# EAGLE library part MAX-M8* (library U-Blox)
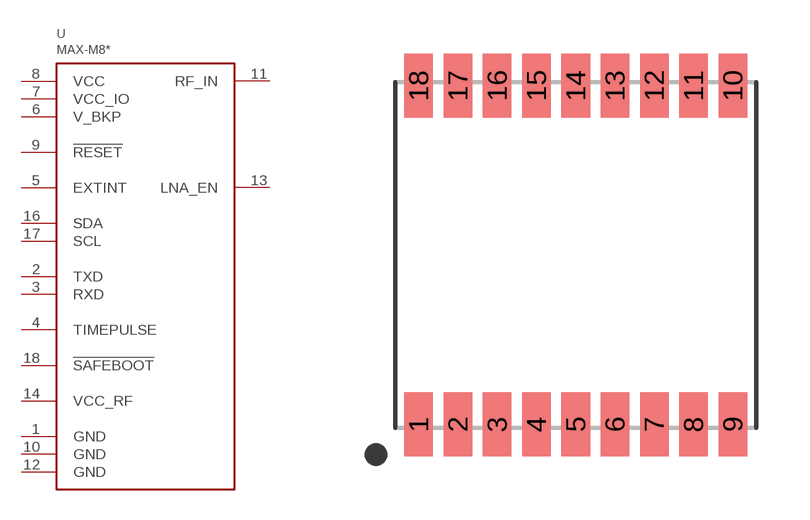
[diagram p1: symbol with the pads of MAX-M8; footprint MAX-M8]

Designator prefix U

## MAX-M8C, MAX-M8Q  [MAX-M8]
1  GND
2  TXD
3  RXD
4  TIMEPULSE
5  EXTINT
6  V_BKP
7  VCC_IO
8  VCC
9  !RESET
10  GND
11  RF_IN
12  GND
13  LNA_EN
14  VCC_RF
16  SDA
17  SCL
18  !SAFEBOOT

## Footprint MAX-M8 (pad centres in mm)
smd 0.8 x 1.8: 1 -4.4,-4.75; 2 -3.3,-4.75; 3 -2.2,-4.75; 4 -1.1,-4.75; 5 0,-4.75; 6 1.1,-4.75; 7 2.2,-4.75; 8 3.3,-4.75; 9 4.4,-4.75; 10 4.4,4.75; 11 3.3,4.75; 12 2.2,4.75; 13 1.1,4.75; 14 0,4.75; 15 -1.1,4.75; 16 -2.2,4.75; 17 -3.3,4.75; 18 -4.4,4.75